# Altium integrated library LONG2440.IntLib: 46 symbols
Pins are listed as number, name and electrical type; pins without a type are passive.

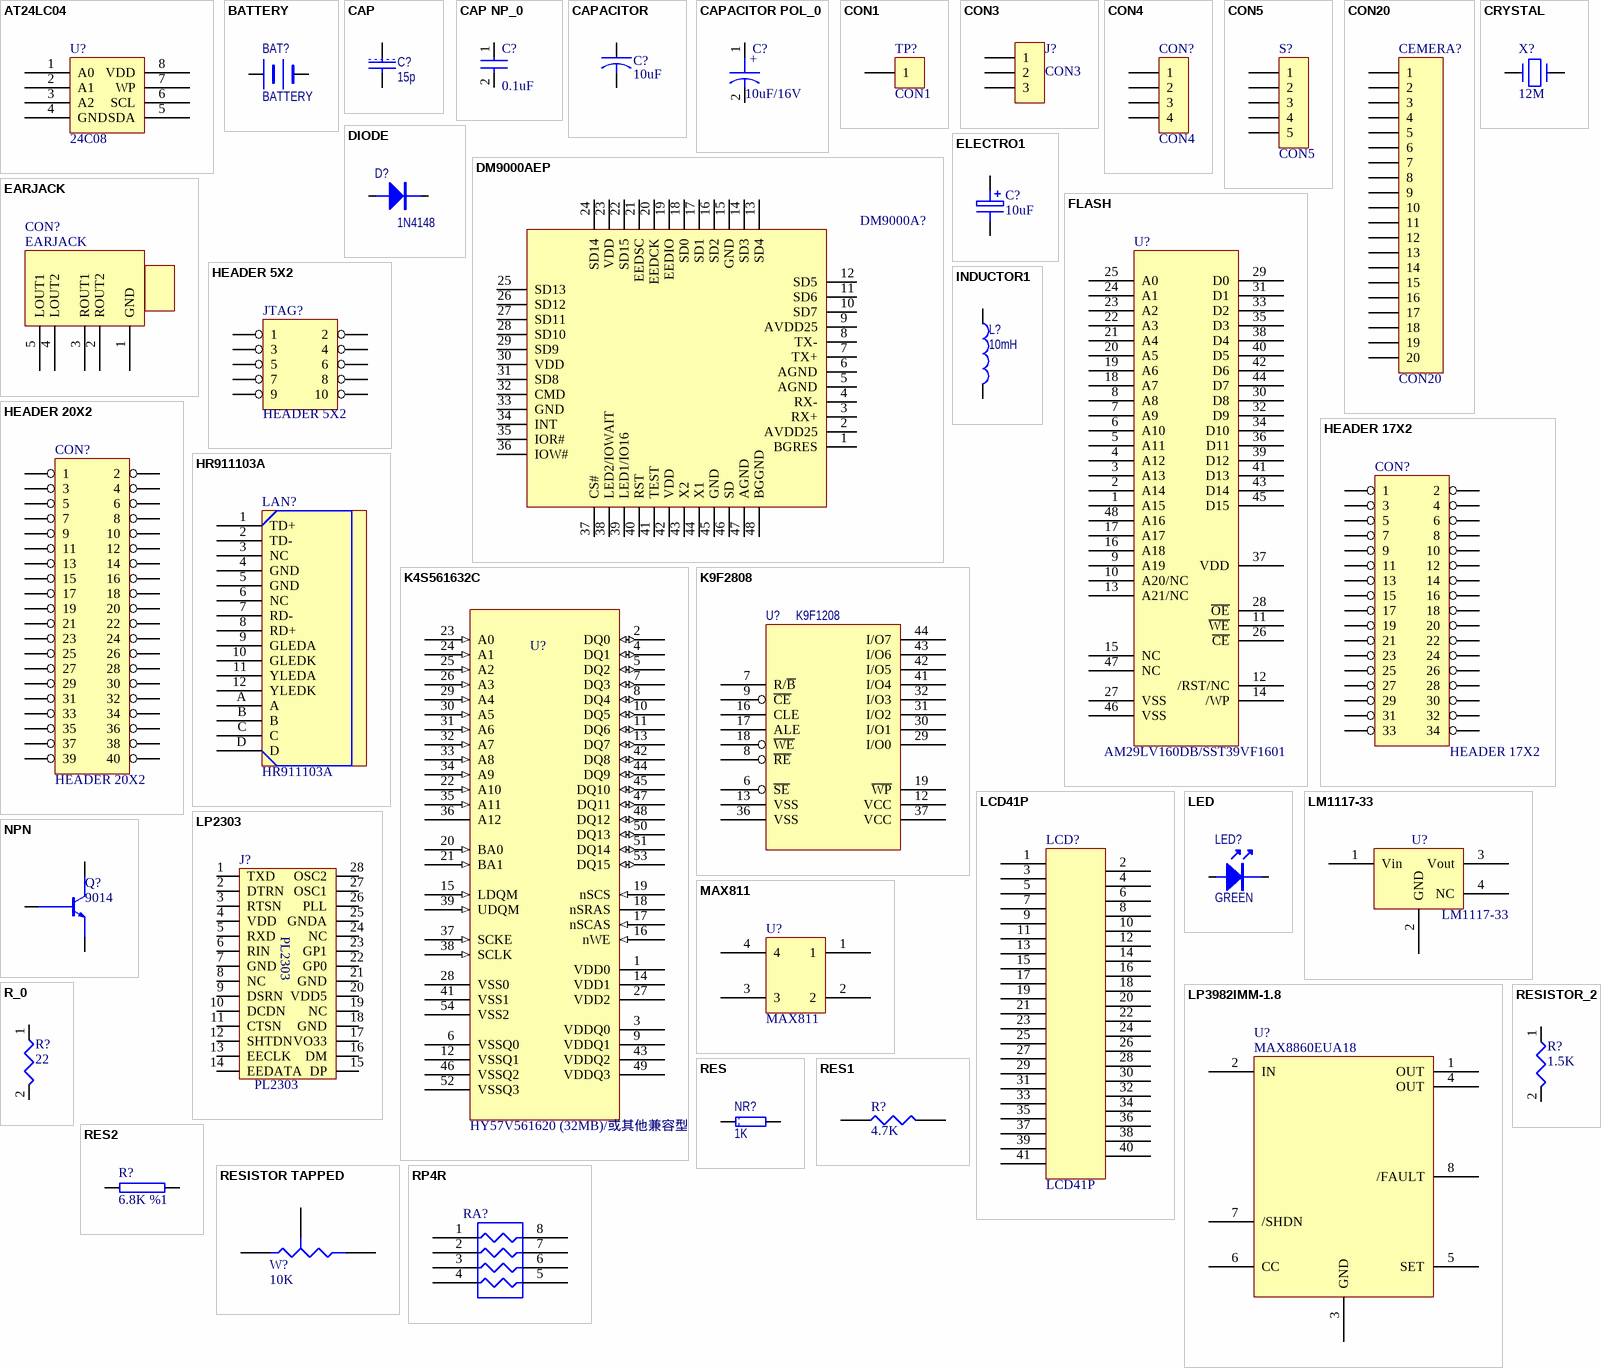
[diagram p0: symbols AT24LC04 to RP4R]

## AT24LC04
designator U?, comment 24C08
U
footprint SOP8-50-160
pins: 1 A0, 2 A1, 3 A2, 4 GND, 5 SDA, 6 SCL, 7 WP, 8 VDD

## BATTERY
designator BAT?
footprint BAT600
pins: 1, 2

## CAP
designator C?, comment 15p
Capacitor
footprint 0805
footprint 0603A
pins: 1, 2

## CAP NP_0
designator C?, comment 0.1uF
Text Field1: 20; Text Field2: 10
footprint 0603A
pins: 1, 2

## CAPACITOR
designator C?, comment 10uF
Capacitor
footprint 3216A
pins: 1, 2

## CAPACITOR POL_0
designator C?, comment 10uF/16V
Text Field1: 20; Text Field2: 20
footprint 3216A
pins: 1, 2
text: +

## CON1
designator TP?
Connector
footprint TP1
pins: 1

## CON3
designator J?
Connector
footprint SIP3-FA
pins: 1, 2, 3

## CON4
designator CON?
Connector
footprint SIP4-FA2
pins: 1, 2, 3, 4

## CON5
designator S?
Connector
footprint SW35
pins: 1, 2, 3, 4, 5

## CON20
designator CEMERA?
Connector
footprint IDC20SS
pins: 1, 2, 3, 4, 5, 6, 7, 8, 9, 10, 11, 12, 13, 14, 15, 16, 17, 18, 19, 20

## CRYSTAL
designator X?, comment 12M
Part Field 1: 1; Part Field 5: 1; Part Field 6: 1000K
footprint CRYSTAL
footprint OSC2PR-1
pins: 1, 2
2 alternate drawings of the same symbol

## DIODE
designator D?, comment 1N4148
footprint D1206
pins: 1, 2

## DM9000AEP
designator DM9000A?  (value not drawn)
footprint DM9000AEP
pins: 1 BGRES, 2 AVDD25, 3 RX+, 4 RX-, 5 AGND, 6 AGND, 7 TX+, 8 TX-, 9 AVDD25, 10 SD7, 11 SD6, 12 SD5, 13 SD4, 14 SD3, 15 GND, 16 SD2, 17 SD1, 18 SD0, 19 EEDIO, 20 EEDCK, 21 EEDSC, 22 SD15, 23 VDD, 24 SD14, 25 SD13, 26 SD12, 27 SD11, 28 SD10, 29 SD9, 30 VDD, 31 SD8, 32 CMD, 33 GND, 34 INT, 35 IOR#, 36 IOW#, 37 CS#, 38 LED2/IOWAIT, 39 LED1/IO16, 40 RST, 41 TEST, 42 VDD, 43 X2, 44 X1, 45 GND, 46 SD, 47 AGND, 48 BGGND

## EARJACK
designator CON?
footprint EARJACK
pins: 1 GND, 2 ROUT2, 3 ROUT1, 4 LOUT2, 5 LOUT1

## ELECTRO1
designator C?, comment 10uF
footprint 3216A
pins: 1, 2

## FLASH
designator U?, comment AM29LV160DB/SST39VF1601
footprint TSOP48
pins: 1 A15, 2 A14, 3 A13, 4 A12, 5 A11, 6 A10, 7 A9, 8 A8, 9 A19, 10 A20/NC, 11 ~{WE}, 12 /RST/NC, 13 A21/NC, 14 /WP, 15 NC, 16 A18, 17 A17, 18 A7, 19 A6, 20 A5, 21 A4, 22 A3, 23 A2, 24 A1, 25 A0, 26 ~{CE}, 27 VSS, 28 ~{OE}, 29 D0, 30 D8, 31 D1, 32 D9, 33 D2, 34 D10, 35 D3, 36 D11, 37 VDD, 38 D4, 39 D12, 40 D5, 41 D13, 42 D6, 43 D14, 44 D7, 45 D15, 46 VSS, 47 NC, 48 A16

## HEADER 5X2
designator JTAG?
footprint IDC10S
pins: 1, 2, 3, 4, 5, 6, 7, 8, 9, 10

## HEADER 17X2
designator CON?
footprint IDC34S
pins: 1, 2, 3, 4, 5, 6, 7, 8, 9, 10, 11, 12, 13, 14, 15, 16, 17, 18, 19, 20, 21, 22, 23, 24, 25, 26, 27, 28, 29, 30, 31, 32, 33, 34

## HEADER 20X2
designator CON?
footprint IDC40S
pins: 1, 2, 3, 4, 5, 6, 7, 8, 9, 10, 11, 12, 13, 14, 15, 16, 17, 18, 19, 20, 21, 22, 23, 24, 25, 26, 27, 28, 29, 30, 31, 32, 33, 34, 35, 36, 37, 38, 39, 40

## HR911103A
designator LAN?
footprint HR911103A
pins: 1 TD+, 2 TD-, 3 NC, 4 GND, 5 GND, 6 NC, 7 RD-, 8 RD+, 9 GLEDA, 10 GLEDK, 11 YLEDA, 12 YLEDK, A, B, C, D

## INDUCTOR1
designator L?, comment 10mH
footprint L
footprint 1206
pins: 1, 2

## K4S561632C
designator U?, comment HY57V561620 (32MB)/或其他兼容型号
Text Field1: 100; Text Field2: 340
footprint TSOP54
pins: 1 VDD0 (power), 2 DQ0 (io), 3 VDDQ0 (power), 4 DQ1 (io), 5 DQ2 (io), 6 VSSQ0 (power), 7 DQ3 (io), 8 DQ4 (io), 9 VDDQ1 (power), 10 DQ5 (io), 11 DQ6 (io), 12 VSSQ1 (power), 13 DQ7 (io), 14 VDD1 (power), 15 LDQM (in), 16 nWE (in), 17 nSCAS (in), 18 nSRAS, 19 nSCS (in), 20 BA0 (in), 21 BA1 (in), 22 A10 (in), 23 A0 (in), 24 A1 (in), 25 A2 (in), 26 A3 (in), 27 VDD2 (power), 28 VSS0 (power), 29 A4 (in), 30 A5 (in), 31 A6 (in), 32 A7 (in), 33 A8 (in), 34 A9 (in), 35 A11 (in), 36 A12, 37 SCKE (in), 38 SCLK (in), 39 UDQM (in), 41 VSS1 (power), 42 DQ8 (io), 43 VDDQ2 (power), 44 DQ9 (io), 45 DQ10 (io), 46 VSSQ2 (power), 47 DQ11 (io), 48 DQ12 (io), 49 VDDQ3 (power), 50 DQ13 (io), 51 DQ14 (io), 52 VSSQ3 (power), 53 DQ15 (io), 54 VSS2 (power)

## K9F2808
designator U?, comment K9F1208
footprint TSOP48
pins: 6 ~{SE}, 7 R/~{B}, 8 ~{RE}, 9 ~{CE}, 12 VCC (power), 13 VSS, 16 CLE, 17 ALE, 18 ~{WE}, 19 ~{WP}, 29 I/O0, 30 I/O1, 31 I/O2, 32 I/O3, 36 VSS, 37 VCC (power), 41 I/O4, 42 I/O5, 43 I/O6, 44 I/O7

## LCD41P
designator LCD?
footprint DF9B-41P-1V2
pins: 1, 2, 3, 4, 5, 6, 7, 8, 9, 10, 11, 12, 13, 14, 15, 16, 17, 18, 19, 20, 21, 22, 23, 24, 25, 26, 27, 28, 29, 30, 31, 32, 33, 34, 35, 36, 37, 38, 39, 40, 41

## LED
designator LED?, comment GREEN
footprint LED
pins: 1, 2

## LM1117-33
designator U?
footprint TO-252
pins: 1 Vin, 2 GND, 3 Vout, 4 NC

## LP2303
designator J?, comment PL2303
footprint PL2303
pins: 1 TXD, 2 DTRN, 3 RTSN, 4 VDD, 5 RXD, 6 RIN, 7 GND, 8 NC, 9 DSRN, 10 DCDN, 11 CTSN, 12 SHTDN, 13 EECLK, 14 EEDATA, 15 DP, 16 DM, 17 VO33, 18 GND, 19 NC, 20 VDD5, 21 GND, 22 GP0, 23 GP1, 24 NC, 25 GNDA, 26 PLL, 27 OSC1, 28 OSC2

## LP3982IMM-1.8
designator U?, comment MAX8860EUA18
footprint MSOP8
pins: 1 OUT, 2 IN, 3 GND, 4 OUT, 5 SET, 6 CC, 7 /SHDN, 8 /FAULT

## MAX811
designator U?
footprint MAX811
pins: 1, 2, 3, 4

## NPN
designator Q?, comment 9014
footprint 5551
footprint SOT23
pins: B, C, E

## R_0
designator R?, comment 22
Text Field1: 20; Text Field2: 30
footprint 0603R
pins: 1, 2

## RES
designator NR?, comment 1K
footprint 0805
footprint 0603
footprint 0603R
pins: 1, 2

## RES1
designator R?, comment 4.7K
footprint 0603R
pins: 1, 2

## RES2
designator R?, comment 6.8K %1
footprint 0603R
pins: 1, 2

## RESISTOR TAPPED
designator W?, comment 10K
footprint R_ADJ7
pins: 1 A, 2 B, 3 TAP

## RESISTOR_2
designator R?, comment 1.5K
Text Field1: 20; Text Field2: 30
footprint 0603R
pins: 1, 2

## RP4R
designator RA?, comment 22  (value not drawn)
Text Field1: 30; Text Field2: 50
footprint R-AR4
pins: 1 R1, 2 R2, 3 R3, 4 R4, 5 R4, 6 R3, 7 R2, 8 R1

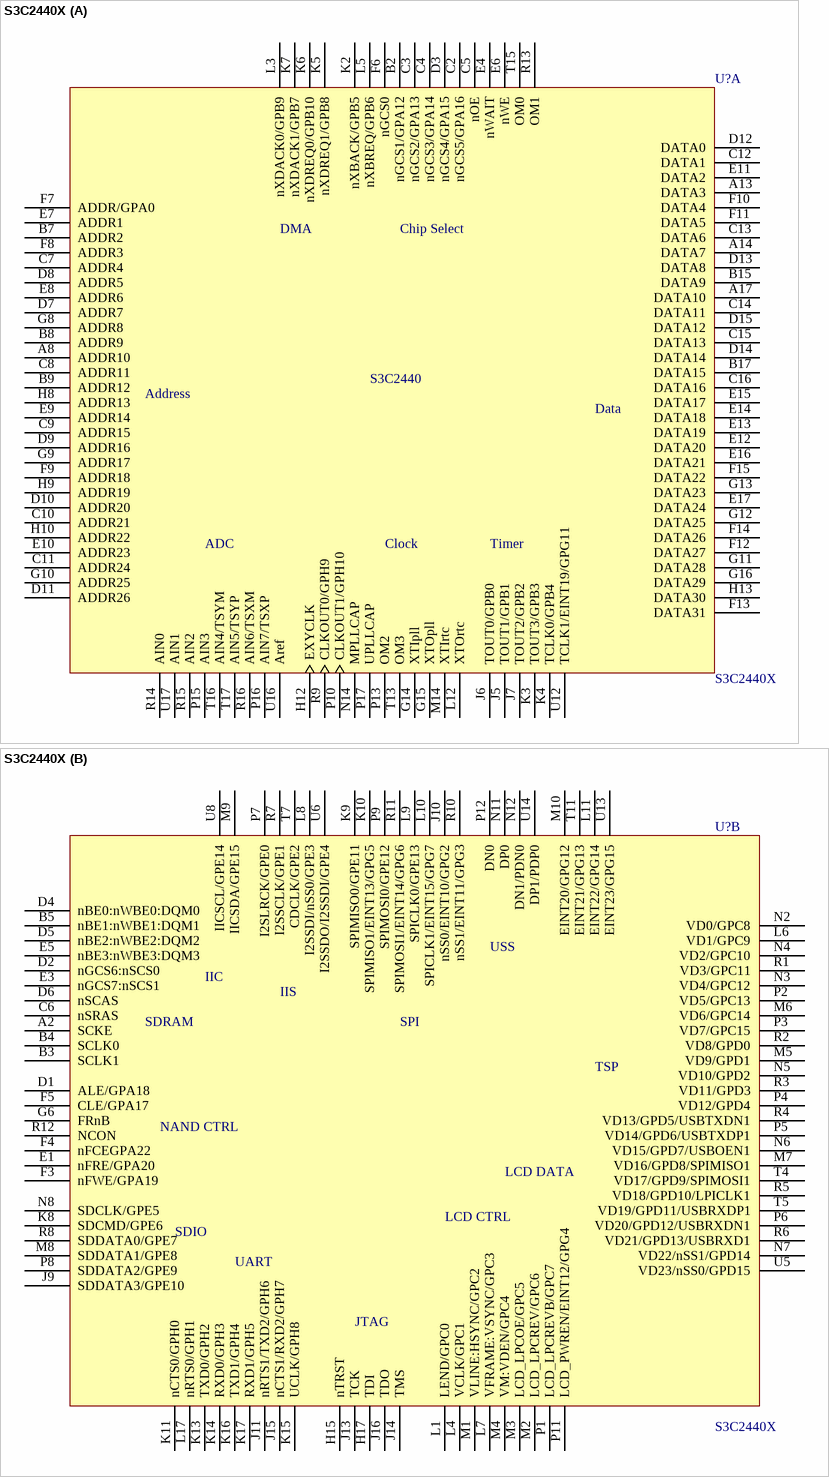
[diagram p1: symbol S3C2440X]

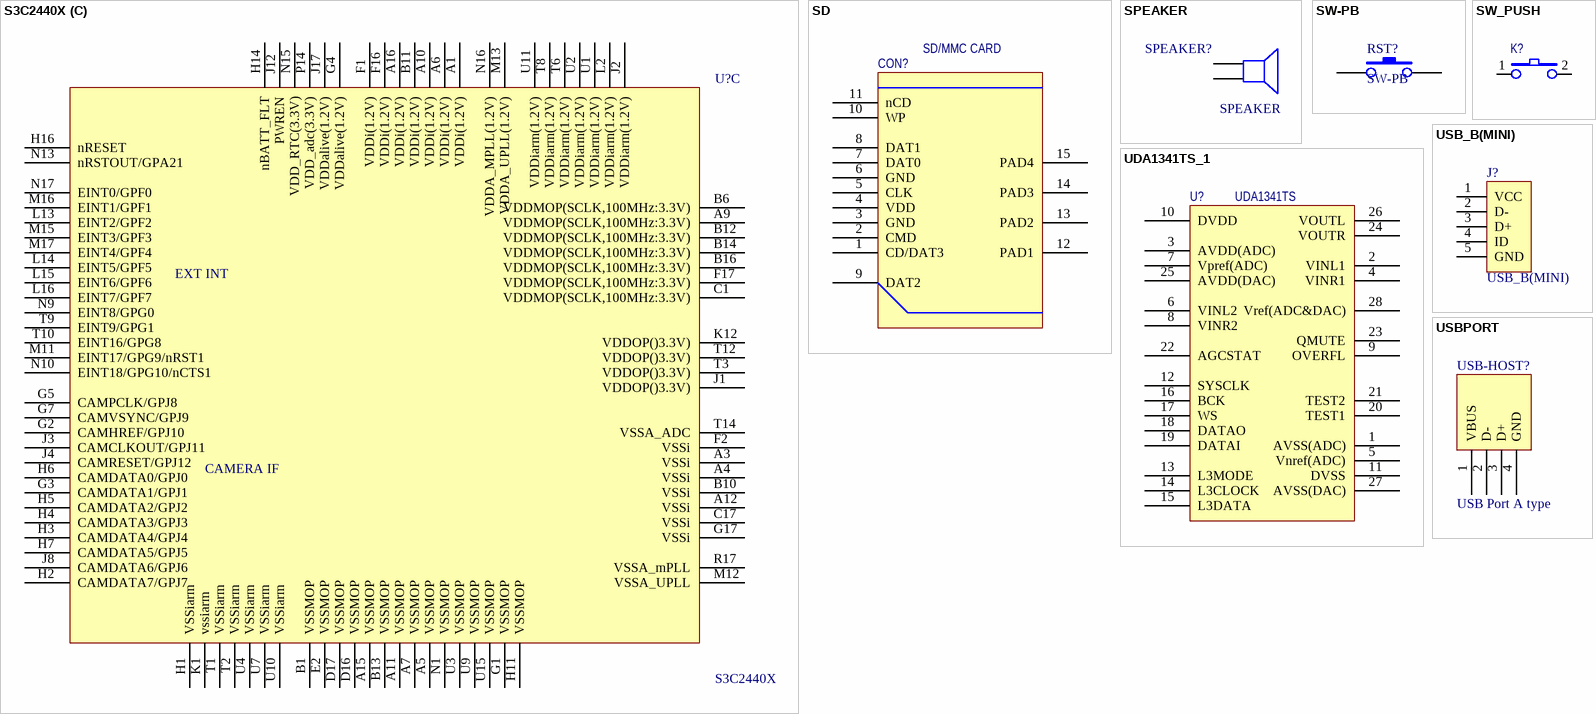
[diagram p2: symbols S3C2440X to USBPORT]

## S3C2440X
designator U?
footprint BGA289
part A pins: A8 ADDR10, A13 DATA3, A14 DATA7, A17 DATA10, B2 nGCS1/GPA12, B7 ADDR2, B8 ADDR9, B9 ADDR12, B15 DATA9, B17 DATA15, C2 nGCS5/GPA16, C3 nGCS2/GPA13, C4 nGCS3/GPA14, C5 nOE, C7 ADDR4, C8 ADDR11, C9 ADDR15, C10 ADDR21, C11 ADDR24, C12 DATA1, C13 DATA6, C14 DATA11, C15 DATA13, C16 DATA16, D3 nGCS4/GPA15, D7 ADDR7, D8 ADDR5, D9 ADDR16, D10 ADDR20, D11 ADDR26, D12 DATA0, D13 DATA8, D14 DATA14, D15 DATA12, E4 nWAIT, E6 nWE, E7 ADDR1, E8 ADDR6, E9 ADDR14, E10 ADDR23, E11 DATA2, E12 DATA20, E13 DATA19, E14 DATA18, E15 DATA17, E16 DATA21, E17 DATA24, F6 nGCS0, F7 ADDR/GPA0, F8 ADDR3, F9 ADDR18, F10 DATA4, F11 DATA5, F12 DATA27, F13 DATA31, F14 DATA26, F15 DATA22, G8 ADDR8, G9 ADDR17, G10 ADDR25, G11 DATA28, G12 DATA25, G13 DATA23, G14 XTIpll, G15 XTOpll, G16 DATA29, H8 ADDR13, H9 ADDR19, H10 ADDR22, H12 EXYCLK, H13 DATA30, J5 TOUT1/GPB1, J6 TOUT0/GPB0, J7 TOUT2/GPB2, K2 nXBACK/GPB5, K3 TOUT3/GPB3, K4 TCLK0/GPB4, K5 nXDREQ1/GPB8, K6 nXDREQ0/GPB10, K7 nXDACK1/GPB7, L3 nXDACK0/GPB9, L5 nXBREQ/GPB6, L12 XTOrtc, M14 XTIrtc, N14 MPLLCAP, P10 CLKOUT1/GPH10, P13 OM2, P15 AIN3, P16 AIN7/TSXP, P17 UPLLCAP, R9 CLKOUT0/GPH9, R13 OM1, R14 AIN0, R15 AIN2, R16 AIN6/TSXM, T13 OM3, T15 OM0, T16 AIN4/TSYM, T17 AIN5/TSYP, U12 TCLK1/EINT19/GPG11, U16 Aref, U17 AIN1
part B pins: A2 SCKE, B3 SCLK1, B4 SCLK0, B5 nBE1:nWBE1:DQM1, C6 nSRAS, D1 ALE/GPA18, D2 nGCS6:nSCS0, D4 nBE0:nWBE0:DQM0, D5 nBE2:nWBE2:DQM2, D6 nSCAS, E1 nFRE/GPA20, E3 nGCS7:nSCS1, E5 nBE3:nWBE3:DQM3, F3 nFWE/GPA19, F4 nFCEGPA22, F5 CLE/GPA17, G6 FRnB, H15 nTRST, H17 TDI, J9 SDDATA3/GPE10, J10 nSS0/EINT10/GPG2, J11 nRTS1/TXD2/GPH6, J13 TCK, J14 TMS, J15 nCTS1/RXD2/GPH7, J16 TDO, K8 SDCMD/GPE6, K9 SPIMISO0/GPE11, K10 SPIMISO1/EINT13/GPG5, K11 nCTS0/GPH0, K13 TXD0/GPH2, K14 RXD0/GPH3, K15 UCLK/GPH8, K16 TXD1/GPH4, K17 RXD1/GPH5, L1 LEND/GPC0, L4 VCLK/GPC1, L6 VD1/GPC9, L7 VFRAME:VSYNC/GPC3, L8 I2SSDI/nSS0/GPE3, L9 SPICLK0/GPE13, L10 SPICLK1/EINT15/GPG7, L11 EINT22/GPG14, L17 nRTS0/GPH1, M1 VLINE:HSYNC/GPC2, M2 LCD_LPCREV/GPC6, M3 LCD_LPCOE/GPC5, M4 VM:VDEN/GPC4, M5 VD9/GPD1, M6 VD6/GPC14, M7 VD16/GPD8/SPIMISO1, M8 SDDATA1/GPE8, M9 IICSDA/GPE15, M10 EINT20/GPG12, N2 VD0/GPC8, N3 VD4/GPC12, N4 VD2/GPC10, N5 VD10/GPD2, N6 VD15/GPD7/USBOEN1, N7 VD22/nSS1/GPD14, N8 SDCLK/GPE5, N11 DP0, N12 DN1/PDN0, P1 LCD_LPCREVB/GPC7, P2 VD5/GPC13, P3 VD7/GPC15, P4 VD12/GPD4, P5 VD14/GPD6/USBTXDP1, P6 VD20/GPD12/USBRXDN1, P7 I2SLRCK/GPE0, P8 SDDATA2/GPE9, P9 SPIMOSI0/GPE12, P11 LCD_PWREN/EINT12/GPG4, P12 DN0, R1 VD3/GPC11, R2 VD8/GPD0, R3 VD11/GPD3, R4 VD13/GPD5/USBTXDN1, R5 VD18/GPD10/LPICLK1, R6 VD21/GPD13/USBRXD1, R7 I2SSCLK/GPE1, R8 SDDATA0/GPE7, R10 nSS1/EINT11/GPG3, R11 SPIMOSI1/EINT14/GPG6, R12 NCON, T4 VD17/GPD9/SPIMOSI1, T5 VD19/GPD11/USBRXDP1, T7 CDCLK/GPE2, T11 EINT21/GPG13, U5 VD23/nSS0/GPD15, U6 I2SSDO/I2SSDI/GPE4, U8 IICSCL/GPE14, U13 EINT23/GPG15, U14 DP1/PDP0
part C pins: A1 VDDi(1.2V), A3 VSSi, A4 VSSi, A5 VSSMOP, A6 VDDi(1.2V), A7 VSSMOP, A9 VDDMOP(SCLK,100MHz:3.3V), A10 VDDi(1.2V), A11 VSSMOP, A12 VSSi, A15 VSSMOP, A16 VDDi(1.2V), B1 VSSMOP, B6 VDDMOP(SCLK,100MHz:3.3V), B10 VSSi, B11 VDDi(1.2V), B12 VDDMOP(SCLK,100MHz:3.3V), B13 VSSMOP, B14 VDDMOP(SCLK,100MHz:3.3V), B16 VDDMOP(SCLK,100MHz:3.3V), C1 VDDMOP(SCLK,100MHz:3.3V), C17 VSSi, D16 VSSMOP, D17 VSSMOP, E2 VSSMOP, F1 VDDi(1.2V), F2 VSSi, F16 VDDi(1.2V), F17 VDDMOP(SCLK,100MHz:3.3V), G1 VSSMOP, G2 CAMHREF/GPJ10, G3 CAMDATA1/GPJ1, G4 VDDalive(1.2V), G5 CAMPCLK/GPJ8, G7 CAMVSYNC/GPJ9, G17 VSSi, H1 VSSiarm, H2 CAMDATA7/GPJ7, H3 CAMDATA4/GPJ4, H4 CAMDATA3/GPJ3, H5 CAMDATA2/GPJ2, H6 CAMDATA0/GPJ0, H7 CAMDATA5/GPJ5, H11 VSSMOP, H14 nBATT_FLT, H16 nRESET, J1 VDDOP()3.3V), J2 VDDiarm(1.2V), J3 CAMCLKOUT/GPJ11, J4 CAMRESET/GPJ12, J8 CAMDATA6/GPJ6, J12 PWREN, J17 VDDalive(1.2V), K1 vssiarm, K12 VDDOP()3.3V), L2 VDDiarm(1.2V), L13 EINT2/GPF2, L14 EINT5/GPF5, L15 EINT6/GPF6, L16 EINT7/GPF7, M11 EINT17/GPG9/nRST1, M12 VSSA_UPLL, M13 VDDA_UPLL(1.2V), M15 EINT3/GPF3, M16 EINT1/GPF1, M17 EINT4/GPF4, N1 VSSMOP, N9 EINT8/GPG0, N10 EINT18/GPG10/nCTS1, N13 nRSTOUT/GPA21, N15 VDD_RTC(3.3V), N16 VDDA_MPLL(1.2V), N17 EINT0/GPF0, P14 VDD_adc(3.3V), R17 VSSA_mPLL, T1 VSSiarm, T2 VSSiarm, T3 VDDOP()3.3V), T6 VDDiarm(1.2V), T8 VDDiarm(1.2V), T9 EINT9/GPG1, T10 EINT16/GPG8, T12 VDDOP()3.3V), T14 VSSA_ADC, U1 VDDiarm(1.2V), U2 VDDiarm(1.2V), U3 VSSMOP, U4 VSSiarm, U7 VSSiarm, U9 VSSMOP, U10 VSSiarm, U11 VDDiarm(1.2V), U15 VSSMOP
part A text: DMA; Chip Select; S3C2440; Address; Data; ADC; Clock; Timer
part B text: USS; IIC; IIS; SDRAM; SPI; TSP; NAND CTRL; LCD DATA; LCD CTRL; SDIO; UART; JTAG
part C text: EXT INT; CAMERA IF

## SD
designator CON?, comment SD/MMC CARD
footprint SDCARD
pins: 1 CD/DAT3, 2 CMD, 3 GND, 4 VDD, 5 CLK, 6 GND, 7 DAT0, 8 DAT1, 9 DAT2, 10 WP, 11 nCD, 12 PAD1, 13 PAD2, 14 PAD3, 15 PAD4

## SPEAKER
designator SPEAKER?
footprint SPEAKER
pins: 1, 2

## SW-PB
designator RST?
footprint RST_KEY
pins: 1, 2

## SW_PUSH
designator K?
Text Field1: 30; Text Field2: 30
footprint SW-PB2
pins: 1, 2

## UDA1341TS_1
designator U?, comment UDA1341TS
Text Field1: 160; Text Field2: 170
footprint SSOP28
footprint TSSOP28N
pins: 1 AVSS(ADC), 2 VINL1, 3 AVDD(ADC), 4 VINR1, 5 Vnref(ADC), 6 VINL2, 7 Vpref(ADC), 8 VINR2, 9 OVERFL, 10 DVDD, 11 DVSS, 12 SYSCLK, 13 L3MODE, 14 L3CLOCK, 15 L3DATA, 16 BCK, 17 WS, 18 DATAO, 19 DATAI, 20 TEST1, 21 TEST2, 22 AGCSTAT, 23 QMUTE, 24 VOUTR, 25 AVDD(DAC), 26 VOUTL, 27 AVSS(DAC), 28 Vref(ADC&DAC)

## USB_B(MINI)
designator J?
footprint USB_MINI
pins: 1 VCC, 2 D-, 3 D+, 4 ID, 5 GND

## USBPORT
designator USB-HOST?, comment USB Port A type
Text Field1: 50; Text Field2: 50
footprint USB-A
pins: 1 VBUS, 2 D-, 3 D+, 4 GND